# Altium schematic symbol library msp_SchLib.SchLib: 15 symbols
Pins are listed as number, name and electrical type; pins without a type are passive.

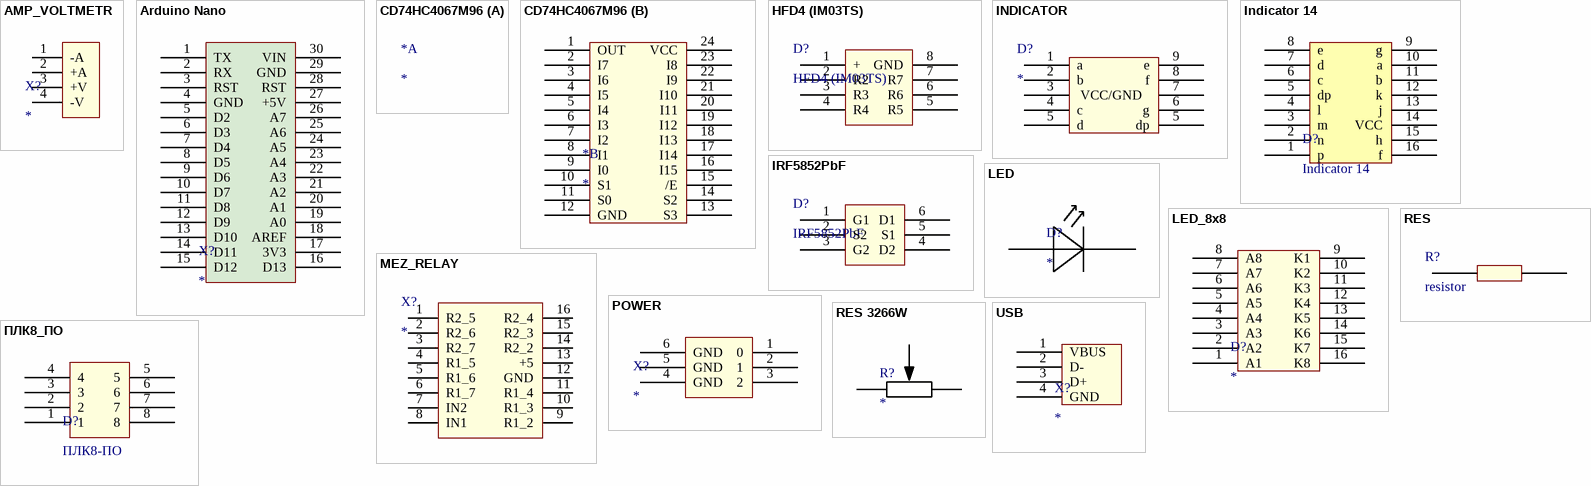
[diagram p0: symbols AMP_VOLTMETR to ПЛК8_ПО]

## AMP_VOLTMETR
designator X?
footprint AMP_VOLTMETR
pins: 1 -A, 2 +A, 3 +V, 4 -V

## Arduino Nano
designator X?
footprint Arduino Nano
pins: 1 TX, 2 RX, 3 RST, 4 GND, 5 D2, 6 D3, 7 D4, 8 D5, 9 D6, 10 D7, 11 D8, 12 D9, 13 D10, 14 D11, 15 D12, 16 D13, 17 3V3, 18 AREF, 19 A0, 20 A1, 21 A2, 22 A3, 23 A4, 24 A5, 25 A6, 26 A7, 27 +5V, 28 RST, 29 GND, 30 VIN

## CD74HC4067M96
designator *
footprint SOIC-24
part B pins: 1 OUT, 2 I7, 3 I6, 4 I5, 5 I4, 6 I3, 7 I2, 8 I1, 9 I0, 10 S1, 11 S0, 12 GND, 13 S3, 14 S2, 15 /E, 16 I15, 17 I14, 18 I13, 19 I12, 20 I11, 21 I10, 22 I9, 23 I8, 24 VCC

## HFD4 (IM03TS)
designator D?
footprint HFD4 (IM03TS)
pins: 1 +, 2 R2, 3 R3, 4 R4, 5 R5, 6 R6, 7 R7, 8 GND

## INDICATOR
designator D?
pins: 1 a, 2 b, 3  VCC/GND, 4 c, 5 d, 5 dp, 6 g, 7 16, 8 f, 9 e

## Indicator 14
designator D?
footprint INDICATIR 14 (24.064)
pins: 1 p, 2 n, 3 m, 4 l, 5 dp, 6 c, 7 d, 8 e, 9 g, 10 a, 11 b, 12 k, 13 j, 14 VCC, 15 h, 16 f

## IRF5852PbF
designator D?
footprint IRF5852PbF (TSOP, 6-Leads, Body 3,00x1,50mm, Pitch 1,00mm, IPC Medium Density)
pins: 1 G1, 2 S2, 3 G2, 4 D2, 5 S1, 6 D1

## LED
designator D?
footprint LED 24.063
footprint LED 24.069
pins: 1, 2

## LED_8x8
designator D?
footprint LED_8x8 (24.067)
pins: 1 A1, 2 A2, 3 A3, 4 A4, 5 A5, 6 A6, 7 A7, 8 A8, 9 K1, 10 K2, 11 K3, 12 K4, 13 K5, 14 K6, 15 K7, 16 K8

## MEZ_RELAY
designator X?
footprint MEZ_RELAY (мезонин реле)
pins: 1 R2_5, 2 R2_6, 3 R2_7, 4 R1_5, 5 R1_6, 6 R1_7, 7 IN2, 8 IN1, 9 R1_2, 10 R1_3, 11 R1_4, 12 GND, 13 +5, 14 R2_2, 15 R2_3, 16 R2_4

## POWER
designator X?
footprint POWER
pins: 1 0, 2 1, 3 2, 4 GND, 5 GND, 6 GND

## RES
designator R?, comment resistor
footprint RES 1608?
pins: 1, 2

## RES 3266W
designator R?
footprint RES 3266W
pins: 1, 2, 3

## USB
designator X?
footprint USB
pins: 1 VBUS, 2 D-, 3 D+, 4 GND

## ПЛК8_ПО
designator D?, comment ПЛК8-ПО
footprint ПЛК8-ПО (Керамическая панель для радиоламп)
pins: 1, 2, 3, 4, 5, 6, 7, 8